# Altium footprint library MOLEX-43650.PcbLib: 11 footprints
Each footprint in its own frame and in the unit in brackets; x right, y up, seen from the top. Pads: shape width x height; smd on the part's side, far side on the other; paste and mask are expansions set on the pad; w line width, h text height; cw(c..) or ccw(c..) is an arc to the next point about the centre after c.
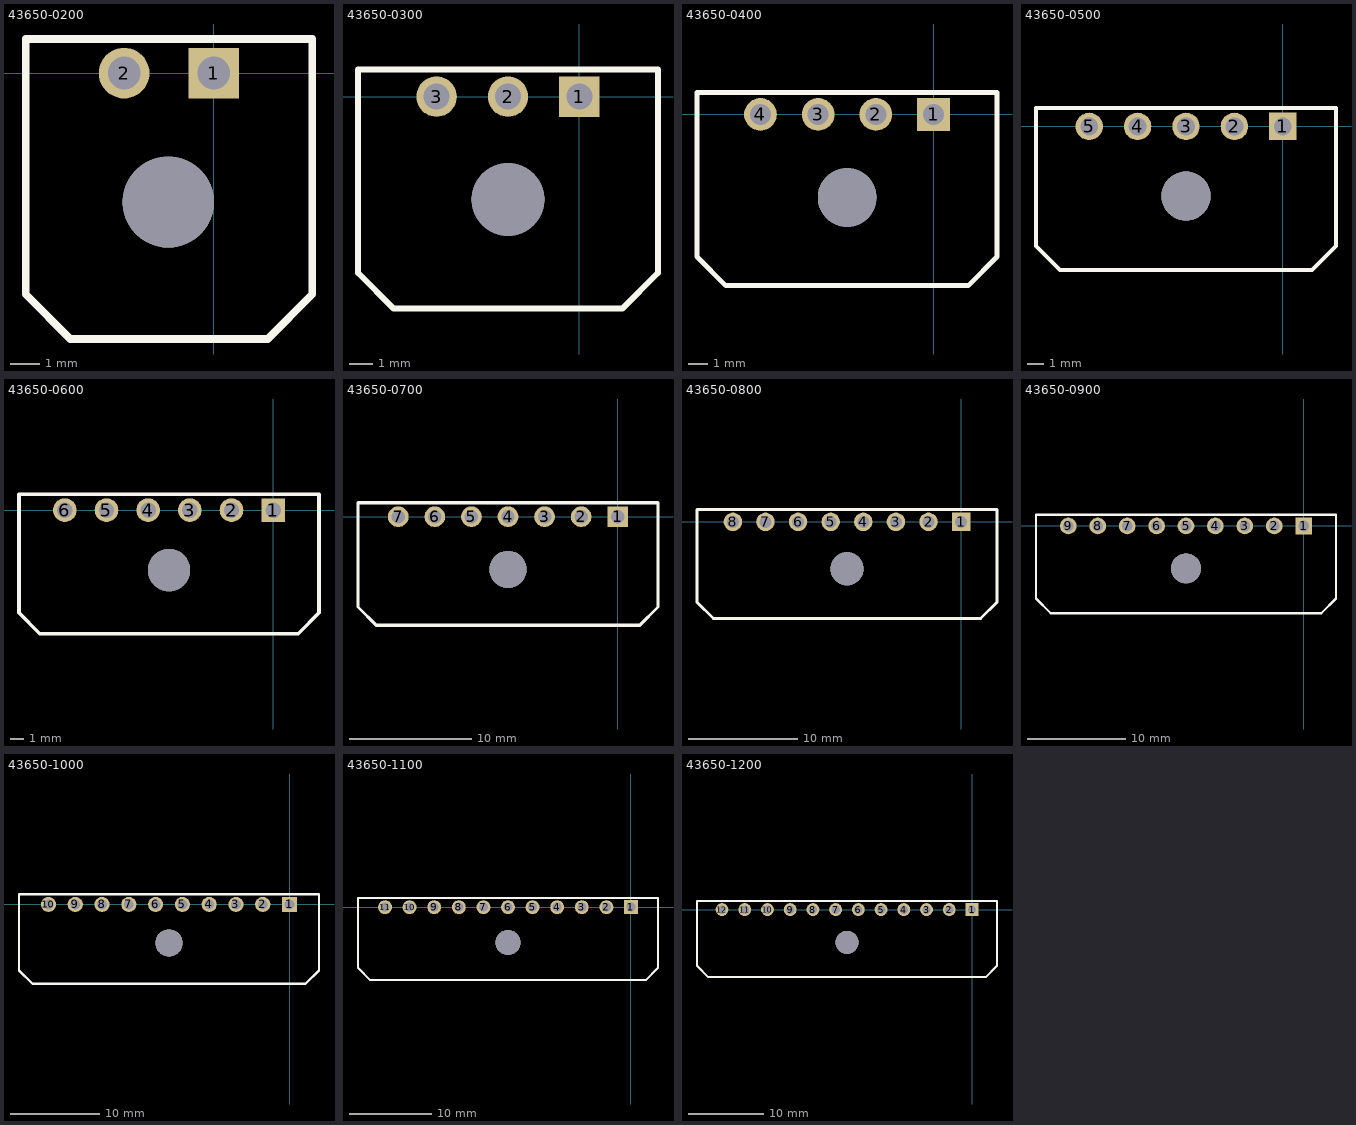
[diagram p0: the footprints below, top view; thin cyan lines are the x and y axes]

## 43650-0200 [mm]
pads (3):
  rect 1.7x1.7 hole 1.1: 1(0,0)
  round 1.7 hole 1.1: 2(-3,0)
  round 3.05 hole 3.05: ""(-1.524,-4.318)
Top Overlay:
  lines w0.254: -6.3,-7.4 -6.3,1.143 3.3,1.143 3.3,-7.4 1.8,-8.9 -4.8,-8.9 -6.3,-7.4

## 43650-0300 [mm]
pads (4):
  rect 1.7x1.7 hole 1.1: 1(0,0)
  round 1.7 hole 1.1: 2(-3,0) 3(-6,0)
  round 3.05 hole 3.05: ""(-3,-4.318)
Top Overlay:
  lines w0.254: -9.3,-7.4 -7.8,-8.9 1.8,-8.9 3.3,-7.4 3.3,1.143 -9.3,1.143 -9.3,-7.4

## 43650-0400 [mm]
pads (5):
  rect 1.7x1.7 hole 1.1: 1(0,0)
  round 1.7 hole 1.1: 2(-3,0) 3(-6,0) 4(-9,0)
  round 3.05 hole 3.05: ""(-4.496,-4.318)
Top Overlay:
  lines w0.254: -12.3,-7.4 -10.8,-8.9 1.8,-8.9 3.3,-7.4 3.3,1.143 -12.3,1.143 -12.3,-7.4

## 43650-0500 [mm]
pads (6):
  rect 1.7x1.7 hole 1.1: 1(0,0)
  round 1.7 hole 1.1: 2(-3,0) 3(-6,0) 4(-9,0) 5(-12,0)
  round 3.05 hole 3.05: ""(-6,-4.318)
Top Overlay:
  lines w0.254: -15.3,-7.4 -13.8,-8.9 1.8,-8.9 3.3,-7.4 3.3,1.143 -15.3,1.143 -15.3,-7.4

## 43650-0600 [mm]
pads (7):
  rect 1.7x1.7 hole 1.1: 1(0,0)
  round 1.7 hole 1.1: 2(-3,0) 3(-6,0) 4(-9,0) 5(-12,0) 6(-15,0)
  round 3.05 hole 3.05: ""(-7.496,-4.318)
Top Overlay:
  lines w0.254: -18.3,-7.4 -18.3,1.143 3.3,1.143 3.3,-7.4 1.8,-8.9 -16.8,-8.9 -18.3,-7.4

## 43650-0700 [mm]
pads (8):
  rect 1.7x1.7 hole 1.1: 1(0,0)
  round 1.7 hole 1.1: 2(-3,0) 3(-6,0) 4(-9,0) 5(-12,0) 6(-15,0) 7(-18,0)
  round 3.05 hole 3.05: ""(-9,-4.318)
Top Overlay:
  lines w0.254: -21.3,-7.4 -19.8,-8.9 1.8,-8.9 3.3,-7.4 3.3,1.143 -21.3,1.143 -21.3,-7.4

## 43650-0800 [mm]
pads (9):
  rect 1.7x1.7 hole 1.1: 1(0,0)
  round 1.7 hole 1.1: 2(-3,0) 3(-6,0) 4(-9,0) 5(-12,0) 6(-15,0) 7(-18,0) 8(-21,0)
  round 3.05 hole 3.05: ""(-10.496,-4.318)
Top Overlay:
  lines w0.254: -24.3,-7.4 -22.8,-8.9 1.8,-8.9 3.3,-7.4 3.3,1.143 -24.3,1.143 -24.3,-7.4

## 43650-0900 [mm]
pads (10):
  rect 1.7x1.7 hole 1.1: 1(0,0)
  round 1.7 hole 1.1: 2(-3,0) 3(-6,0) 4(-9,0) 5(-12,0) 6(-15,0) 7(-18,0) 8(-21,0) 9(-24,0)
  round 3.05 hole 3.05: ""(-12,-4.318)
Top Overlay:
  lines w0.254: -27.3,-7.4 -25.8,-8.9 1.8,-8.9 3.3,-7.4 3.3,1.143 -27.3,1.143 -27.3,-7.4

## 43650-1000 [mm]
pads (11):
  rect 1.7x1.7 hole 1.1: 1(0,0)
  round 1.7 hole 1.1: 2(-3,0) 3(-6,0) 4(-9,0) 5(-12,0) 6(-15,0) 7(-18,0) 8(-21,0) 9(-24,0) 10(-27,0)
  round 3.05 hole 3.05: ""(-13.496,-4.318)
Top Overlay:
  lines w0.254: -30.3,-7.4 -28.8,-8.9 1.8,-8.9 3.3,-7.4 3.3,1.143 -30.3,1.143 -30.3,-7.4

## 43650-1100 [mm]
pads (12):
  rect 1.7x1.7 hole 1.1: 1(0,0)
  round 1.7 hole 1.1: 2(-3,0) 3(-6,0) 4(-9,0) 5(-12,0) 6(-15,0) 7(-18,0) 8(-21,0) 9(-24,0) 10(-27,0) 11(-30,0)
  round 3.05 hole 3.05: ""(-15,-4.318)
Top Overlay:
  lines w0.254: -33.3,-7.4 -33.3,1.143 3.3,1.143 3.3,-7.4 1.8,-8.9 -31.8,-8.9 -33.3,-7.4

## 43650-1200 [mm]
pads (13):
  rect 1.7x1.7 hole 1.1: 1(0,0)
  round 1.7 hole 1.1: 2(-3,0) 3(-6,0) 4(-9,0) 5(-12,0) 6(-15,0) 7(-18,0) 8(-21,0) 9(-24,0) 10(-27,0) 11(-30,0) 12(-33,0)
  round 3.05 hole 3.05: ""(-16.496,-4.318)
Top Overlay:
  lines w0.254: -36.3,-7.4 -34.8,-8.9 1.8,-8.9 3.3,-7.4 3.3,1.143 -36.3,1.143 -36.3,-7.4